# Altium schematic symbol library LP3878MRX-ADJ NOPB.SchLib: 1 symbol
Pins are listed as number, name and electrical type; pins without a type are passive.

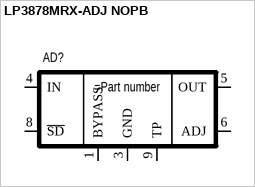
[diagram p0: symbol LP3878MRX-ADJ NOPB]

## LP3878MRX-ADJ NOPB
designator AD?
pins: 1 BYPASS, 3 GND, 4 IN, 5 OUT, 6 ADJ, 8 ~{SD}, 9 TP